# EAGLE library part GSD09002SEU (library GSD09002SEU)
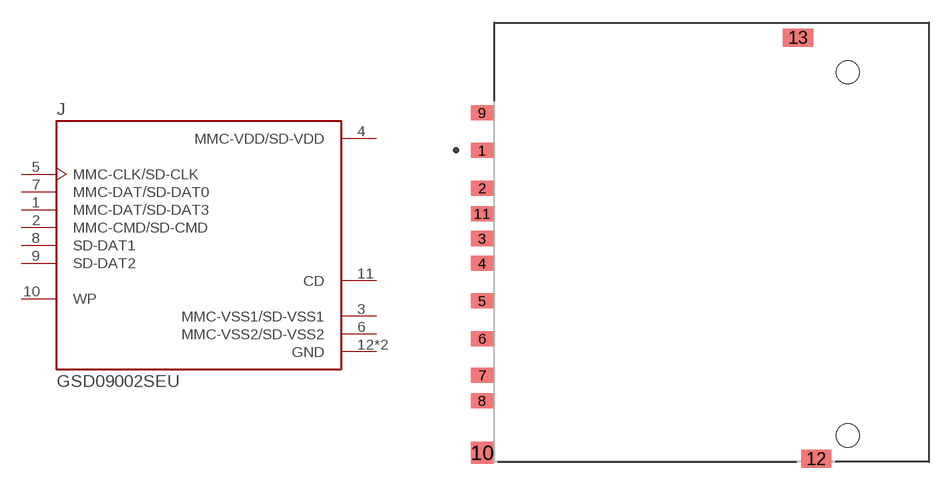
[diagram p0: symbol with the pads of AMPHENOL_GSD09002SEU; footprint AMPHENOL_GSD09002SEU]

Designator prefix J

## GSD09002SEU (Description: Micro SD and SD Card Sockets, Input Output Connectors, SD Socket,9 Position, Push Push,15μin Gold; Digi-Key_Part_Number: 664-GSD09002SEUTR-ND; MF: Amphenol ICC; MP: GSD09002SEU; Package: None; Purchase-URL: https://pricing.snapeda.com/search/part/GSD09002SEU/?ref=eda)  [AMPHENOL_GSD09002SEU]
1  MMC-DAT/SD-DAT3
2  MMC-CMD/SD-CMD
3  MMC-VSS1/SD-VSS1  pwr
4  MMC-VDD/SD-VDD  pwr
5  MMC-CLK/SD-CLK
6  MMC-VSS2/SD-VSS2  pwr
7  MMC-DAT/SD-DAT0
8  SD-DAT1
9  SD-DAT2
10  WP  pas
11  CD  pas
12  GND  pwr
13  GND  pwr

## Footprint AMPHENOL_GSD09002SEU (pad centres in mm)
smd 1.5 x 1: 1 -24.31,6.1; 2 -24.31,3.6; 3 -24.31,0.25; 4 -24.31,-1.4; 5 -24.31,-3.9; 6 -24.31,-6.4; 7 -24.31,-8.83; 8 -24.31,-10.53; 9 -24.31,8.6; 11 -24.31,1.9
smd 1.5 x 1.45: 10 -24.31,-13.98
smd 2 x 1.2: 12 -2.1,-14.4; 13 -3.3,13.6
hole 1.55 at 0,-12.85
hole 1.55 at 0,11.3